# Altium footprint library LXES15AAA1-153.PcbLib: 1 footprints
Each footprint in its own frame and in the unit in brackets; x right, y up, seen from the top. Pads: shape width x height; smd on the part's side, far side on the other; paste and mask are expansions set on the pad; w line width, h text height; cw(c..) or ccw(c..) is an arc to the next point about the centre after c.
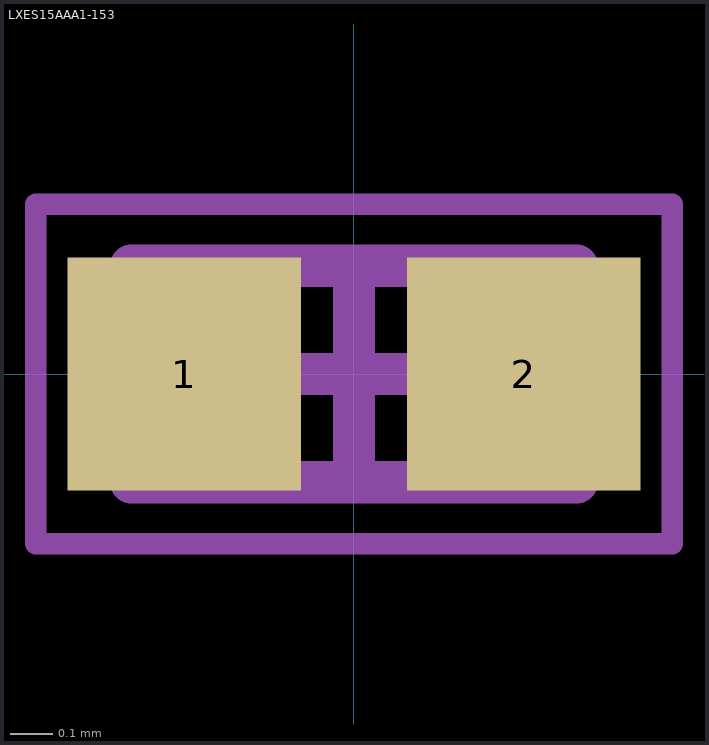
[diagram p0: the footprint, top view; thin cyan lines are the x and y axes]

## LXES15AAA1-153 [mm] "Chip Diode, 2-Leads, Body 0,98x0,50mm, IPC High Density"
height 0.33
pads (2):
  rect 0.55x0.55 smd: 1(-0.4,0) 2(0.4,0)
Mechanical 13:
  lines w0.1: -0.525,-0.255 0.525,-0.255 0.525,0.255 -0.525,0.255 -0.525,-0.255
Mechanical 15:
  lines w0.05: -0.75,-0.4 0.75,-0.4 0.75,0.4 -0.75,0.4 -0.75,-0.4
  lines w0.1: -0.255,0 0.255,0 ; 0,-0.255 0,0.255
3D body: height 0.33, standoff 0, extent 0.325,-0.255 0.525,0.255
3D body: height 0.33, standoff 0, extent -0.525,-0.255 -0.325,0.255
3D body: height 0.33, standoff 0, extent -0.325,-0.255 0.325,0.255